# Altium footprint library resistor.PCBLIB: 427 footprints (part 21 of 27)
Each footprint in its own frame and in the unit in brackets; x right, y up, seen from the top. Pads: shape width x height; smd on the part's side, far side on the other; paste and mask are expansions set on the pad; w line width, h text height; cw(c..) or ccw(c..) is an arc to the next point about the centre after c.
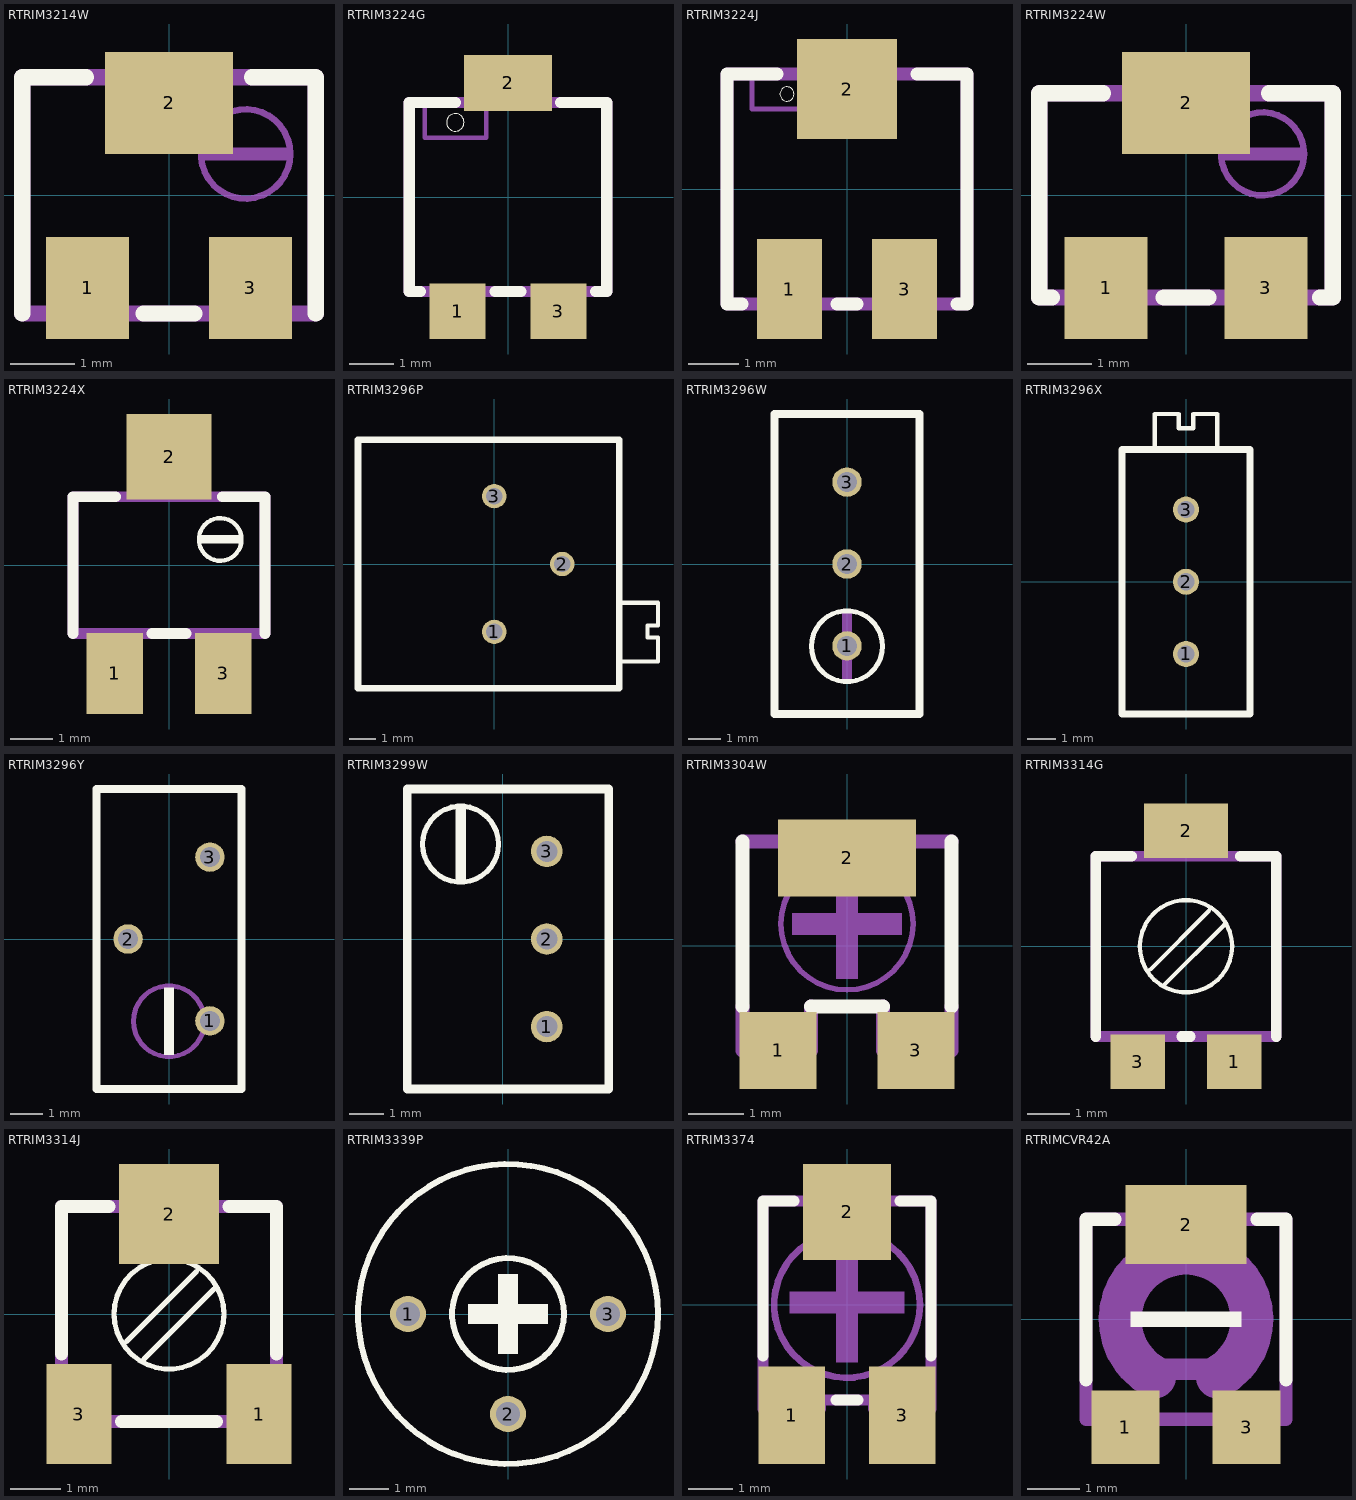
[diagram p20: the footprints below, top view; thin cyan lines are the x and y axes]

## RTRIM3214W [mm]
pads (3):
  rect 1.3x1.6 smd: 1(-1.275,-1.45) 3(1.275,-1.45)
  rect 2x1.6 smd: 2(0,1.45)
Top Overlay:
  lines w0.254: -2.3,-1.85 -2.3,1.85 -1.3,1.85 ; -0.4,-1.85 0.4,-1.85 ; 1.3,1.85 2.3,1.85 2.3,-1.85
Mechanical 16:
  circle w0.102: c1.2,0.65 r0.7
  rectangle: 0.55,0.55 1.85,0.75
  rectangle: -1.8,-2.1 -0.75,-1.95
  rectangle: 0.75,-2.1 1.8,-1.95
  rectangle: -0.75,1.95 0.75,2.1
  lines w0.254: -2.3,-1.85 -2.3,1.85 2.3,1.85 2.3,-1.85 -2.3,-1.85

## RTRIM3224G [mm]
pads (3):
  rect 1.27x1.27 smd: 1(-1.15,-2.6) 3(1.15,-2.6)
  rect 2x1.27 smd: 2(0,2.6)
Top Overlay:
  circle w0: c-1.2,1.7 r0.2
  lines w0.254: -2,-2.15 -2.25,-2.15 -2.25,2.15 -1.2,2.15 ; -0.3,-2.15 0.3,-2.15 ; 1.2,2.15 2.25,2.15 2.25,-2.15 2,-2.15
Mechanical 16:
  rectangle: -0.65,2.25 0.65,3
  rectangle: -1.6,-3 -0.7,-2.25
  rectangle: 0.7,-3 1.6,-2.25
  lines w0.102: -1.9,2.05 -1.9,1.35 -0.5,1.35 -0.5,2.05
  lines w0.254: -2.25,-2.15 2.25,-2.15 2.25,2.15 -2.25,2.15 -2.25,-2.15

## RTRIM3224J [mm]
pads (3):
  rect 1.3x2 smd: 1(-1.15,-2) 3(1.15,-2)
  rect 2x2 smd: 2(0,2)
Top Overlay:
  circle w0: c-1.2,1.9 r0.141
  lines w0.254: -2.1,-2.3 -2.4,-2.3 -2.4,2.3 -1.4,2.3 ; -0.2,-2.3 0.2,-2.3 ; 1.4,2.3 2.4,2.3 2.4,-2.3 2.2,-2.3
Mechanical 16:
  rectangle: -0.6,2.4 0.6,2.5
  rectangle: 0.7,-2.5 1.6,-2.4
  rectangle: -1.6,-2.5 -0.7,-2.4
  lines w0.102: -1.9,2.2 -1.9,1.6 -0.5,1.6 -0.5,2.2
  lines w0.254: -2.4,-2.3 2.4,-2.3 2.4,2.3 -2.4,2.3 -2.4,-2.3

## RTRIM3224W [mm]
pads (3):
  rect 1.3x1.6 smd: 1(-1.25,-1.45) 3(1.25,-1.45)
  rect 2x1.6 smd: 2(0,1.45)
Top Overlay:
  lines w0.254: -2.1,-1.6 -2.3,-1.6 -2.3,1.6 -1.3,1.6 ; -0.35,-1.6 0.35,-1.6 ; 1.3,1.6 2.3,1.6 2.3,-1.6 2.1,-1.6
Mechanical 16:
  circle w0.102: c1.2,0.65 r0.65
  rectangle: -0.7,1.7 0.7,1.95
  rectangle: 0.85,-1.95 1.65,-1.7
  rectangle: -1.65,-1.95 -0.85,-1.7
  rectangle: 0.6,0.55 1.8,0.75
  lines w0.254: -2.3,-1.6 2.3,-1.6 2.3,1.6 -2.3,1.6 -2.3,-1.6

## RTRIM3224X [mm]
pads (3):
  rect 1.32x1.9 smd: 1(-1.27,-2.54) 3(1.27,-2.54)
  rect 2x2 smd: 2(0,2.54)
Top Overlay:
  circle w0.102: c1.2,0.6 r0.5
  rectangle: 0.75,0.5 1.65,0.7
  lines w0.254: -2.25,-1.6 -2.25,1.6 -1.25,1.6 ; -0.4,-1.6 0.4,-1.6 ; 1.25,1.6 2.25,1.6 2.25,-1.6
Mechanical 16:
  rectangle: -1.7,-2.85 -0.9,-1.7
  rectangle: 0.9,-2.85 1.7,-1.7
  rectangle: -0.65,1.7 0.65,2.85
  lines w0.254: -2.25,-1.6 -2.25,1.6 2.25,1.6 2.25,-1.6 -2.25,-1.6

## RTRIM3296P [mil]
pads (3):
  round 36 hole 24: 1(0,-100) 2(100,0) 3(0,100)
Top Overlay:
  lines w6: 187.99,-143.7 241.14,-143.7 241.14,-108.27 225.39,-108.27 225.39,-90.55 241.14,-90.55 241.14,-57.09 187.99,-57.09
  lines w10: -200.79,-183.07 -200.79,183.07 184.06,183.07 184.06,-183.07 -200.79,-183.07

## RTRIM3296W [mil]
pads (3):
  round 36 hole 24: 1(0,-100) 2(0,0) 3(0,100)
Top Overlay:
  circle w6: c0,-100.39 r43.35
  lines w10: -88.58,-183.07 88.58,-183.07 88.58,183.07 -88.58,183.07 -88.58,-183.07
Mechanical 16:
  rectangle: -5.91,-141.73 5.91,-59.06

## RTRIM3296X [mil]
pads (3):
  round 36 hole 24: 1(0,-100) 2(0,0) 3(0,100)
Top Overlay:
  lines w6: -43.31,185.04 -43.31,232.28 -9.84,232.28 -9.84,212.6 9.84,212.6 9.84,232.28 43.31,232.28 43.31,185.04
  lines w10: -88.58,-183.07 88.58,-183.07 88.58,183.07 -88.58,183.07 -88.58,-183.07

## RTRIM3296Y [mil]
pads (3):
  round 36 hole 24: 1(50,-100) 2(-50,0) 3(50,100)
Top Overlay:
  rectangle: -5.91,-141.73 5.91,-59.06
  lines w10: -88.58,-183.07 88.58,-183.07 88.58,183.07 -88.58,183.07 -88.58,-183.07
Mechanical 16:
  circle w6: c0,-100.39 r43.35

## RTRIM3299W [mil]
pads (3):
  round 36 hole 24: 1(50,-100) 2(50,0) 3(50,100)
Top Overlay:
  circle w6: c-48.43,108.27 r43.35
  rectangle: -54.33,66.93 -42.52,149.61
  lines w10: -109.45,-171.26 120.87,-171.26 120.87,171.26 -109.45,171.26 -109.45,-171.26

## RTRIM3304W [mil]
pads (3):
  rect 55.12x55.12 smd: 1(-49.21,-74.8) 3(49.21,-74.8)
  rect 98.43x55.12 smd: 2(0,62.99)
Top Overlay:
  lines w10: -74.8,-43.31 -74.8,74.8 ; -25.59,-43.31 25.59,-43.31 ; 74.8,-43.31 74.8,74.8
Mechanical 16:
  circle w4: c0,15.75 r47.24
  rectangle: -39.37,7.87 39.37,23.62
  rectangle: -7.87,-23.62 7.87,55.12
  lines w10: -74.8,-43.31 -74.8,-74.8 -25.59,-74.8 -25.59,-43.31 ; -74.8,74.8 74.8,74.8 ; 25.59,-43.31 25.59,-74.8 74.8,-74.8 74.8,-43.31

## RTRIM3314G [mm]
pads (3):
  rect 1.3x1.3 smd: 1(1.15,-2.75) 3(-1.15,-2.75)
  rect 2x1.3 smd: 2(0,2.75)
Top Overlay:
  circle w0.102: c0,0 r1.1
  lines w0.102: -0.85,-0.55 0.55,0.85 ; -0.5,-0.9 0.9,0.5
  lines w0.254: -2.15,-2.15 -2.15,2.15 -1.3,2.15 ; -0.1,-2.15 0.1,-2.15 ; 1.3,2.15 2.15,2.15 2.15,-2.15
Mechanical 16:
  lines w0.254: -2.15,-2.15 2.15,-2.15 2.15,2.15 -2.15,2.15 -2.15,-2.15

## RTRIM3314J [mm]
pads (3):
  rect 1.3x2 smd: 1(1.8,-2) 3(-1.8,-2)
  rect 2x2 smd: 2(0,2)
Top Overlay:
  circle w0.102: c0,0 r1.1
  lines w0.102: -0.85,-0.55 0.55,0.85 ; -0.5,-0.9 0.9,0.5
  lines w0.254: -2.15,-0.8 -2.15,2.15 -1.2,2.15 ; -0.95,-2.15 0.95,-2.15 ; 1.2,2.15 2.15,2.15 2.15,-0.8
Mechanical 16:
  lines w0.254: -2.15,-2.15 2.15,-2.15 2.15,2.15 -2.15,2.15 -2.15,-2.15

## RTRIM3339P [mil]
pads (3):
  round 36 hole 24: 1(-100,0) 2(0,-100) 3(100,0)
Top Overlay:
  circle w6: c0,0 r150
  circle w6: c0,0 r55.9
  rectangle: -40,-10 40,10
  rectangle: -10,-40 10,40

## RTRIM3374 [mil]
pads (3):
  rect 59.06x86.61 smd: 1(-49.21,-98.43) 3(49.21,-98.43)
  rect 77.95x85.43 smd: 2(0,82.68)
Top Overlay:
  lines w10: -74.8,-45.28 -74.8,92.52 -47.24,92.52 ; -9.84,-84.65 9.84,-84.65 ; 47.24,92.52 74.8,92.52 74.8,-45.28
Mechanical 16:
  circle w6: c0,0 r64.96
  rectangle: -9.84,-51.18 9.84,51.18
  rectangle: -51.18,-7.87 51.18,11.81
  lines w10: -74.8,-92.52 -23.62,-92.52 -23.62,-84.65 23.62,-84.65 23.62,-92.52 74.8,-92.52 74.8,92.52 -74.8,92.52 -74.8,-92.52

## RTRIMCVR42A [mil]
pads (3):
  rect 51.18x55.12 smd: 1(-45.28,-80.71) 3(45.28,-80.71)
  rect 90.55x59.06 smd: 2(0,70.87)
Top Overlay:
  rectangle: -41.34,-5.91 41.34,5.91
  lines w10: -74.8,-45.28 -74.8,74.8 -53.15,74.8 ; 53.15,74.8 74.8,74.8 74.8,-45.28
Mechanical 16:
  rectangle: -25.59,-45.28 25.59,-29.53
  lines w10: -74.8,-74.8 -74.8,74.8 74.8,74.8 74.8,-74.8 -74.8,-74.8
  lines w32: -23.62,-43.31 cw(c0,-0.01) 23.62,-43.31